# EAGLE library part TRC104 (library rf_blinky)
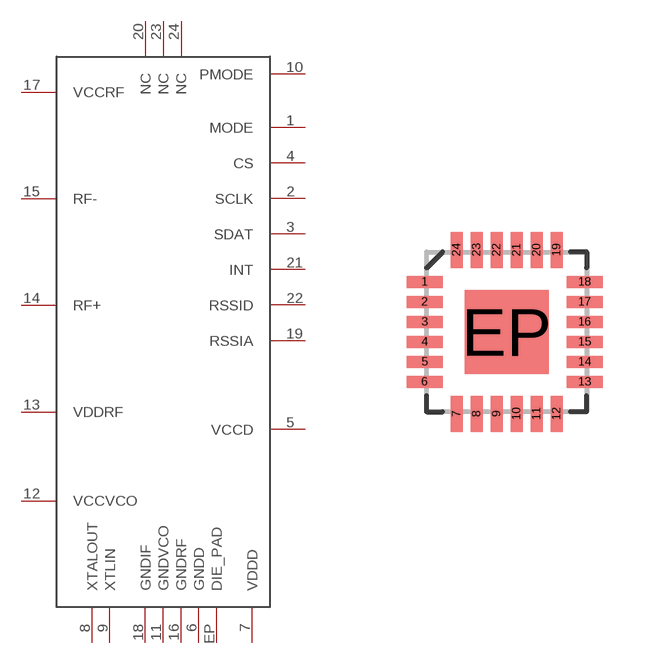
[diagram p0: symbol with the pads of QFN24; footprint QFN24]

Designator prefix -

## TRC104  [QFN24]
1  MODE
2  SCLK
3  SDAT
4  CS
5  VCCD
6  GNDD
7  VDDD
8  XTALOUT
9  XTLIN
10  PMODE
11  GNDVCO
12  VCCVCO
13  VDDRF
14  RF+
15  RF-
16  GNDRF
17  VCCRF
18  GNDIF
19  RSSIA
20  NC
21  INT
22  RSSID
23  NC
24  NC
EP  DIE_PAD

## Footprint QFN24 (pad centres in mm)
smd 0.9 x 0.3: 1 -2.05,1.25; 2 -2.05,0.75; 3 -2.05,0.25; 4 -2.05,-0.25; 5 -2.05,-0.75; 6 -2.05,-1.25; 13 1.95,-1.25; 14 1.95,-0.75; 15 1.95,-0.25; 16 1.95,0.25; 17 1.95,0.75; 18 1.95,1.25
smd 0.3 x 0.9: 7 -1.25,-2.05; 8 -0.75,-2.05; 9 -0.25,-2.05; 10 0.25,-2.05; 11 0.75,-2.05; 12 1.25,-2.05; 19 1.25,2.05; 20 0.75,2.05; 21 0.25,2.05; 22 -0.25,2.05; 23 -0.75,2.05; 24 -1.25,2.05
smd 2.1 x 2.1: EP 0,0